# Altium schematic symbol library Littelfuse 1206L025YR.Schlib: 1 symbol
Pins are listed as number, name and electrical type; pins without a type are passive.

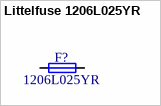
[diagram p0: symbol Littelfuse 1206L025YR]

## Littelfuse 1206L025YR
designator F?, comment 1206L025YR
/ Polymeric 16V 500mA 100ms 750mΩ 1206 PTC Resettable Fuses RoHS; Value: 16V 500mA; ComponentLink1Description: LCSC - Littelfuse 1206L025YR; ComponentLink1URL: https://lcsc.com/product-detail/Surface-Mount-Fuses_Littelfuse_1206L025YR_0-25A-16V_C99561.html
footprint FUSR_LITTELFUSE_1206L012 (Surface Mount POLY-FUSE® Resettable PTC, 1206L Series)
pins: 1, 2